# Altium schematic symbol library Ipex_Conn.A1.SchLib: 1 symbol
Pins are listed as number, name and electrical type; pins without a type are passive.

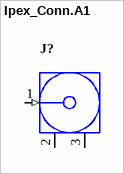
[diagram p0: symbol Ipex_Conn.A1]

## Ipex_Conn.A1
designator J?
pins: 1 Signal (in) "Signal Pin", 2 GND (power), 3 GND (power)